# Altium footprint library 15EDGRC-3.81-03P.PcbLib: 1 footprints
Each footprint in its own frame and in the unit in brackets; x right, y up, seen from the top. Pads: shape width x height; smd on the part's side, far side on the other; paste and mask are expansions set on the pad; w line width, h text height; cw(c..) or ccw(c..) is an arc to the next point about the centre after c.
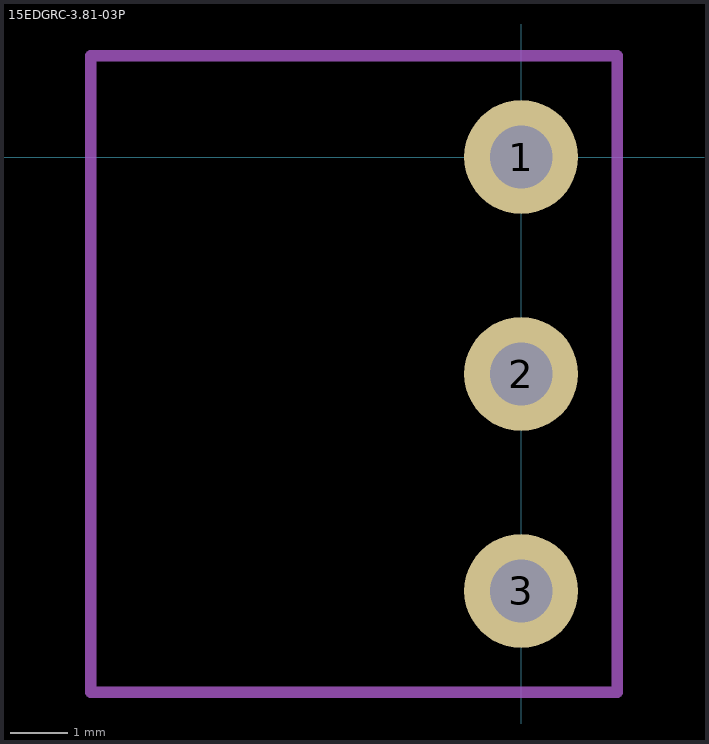
[diagram p0: the footprint, top view; thin cyan lines are the x and y axes]

## 15EDGRC-3.81-03P [mm]
pads (3):
  round 2 hole 1.1: 1(0,0) 2(0,-3.81) 3(0,-7.62)
TopAssy:
  lines w0.2: -7.56,-9.398 -7.56,1.778 1.69,1.778 1.69,-9.398 -7.56,-9.398